# Altium integrated library NSC Transconductance Amplifier.IntLib: 2 symbols
Pins are listed as number, name and electrical type; pins without a type are passive.

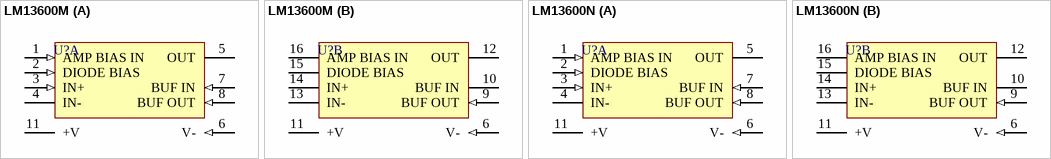
[diagram p0: symbols LM13600M to LM13600N]

## LM13600M
designator U?
Dual Operational Transconductance Amplifier with Linearizing Diodes and Buffers; ComponentAvailability: Obsolete; Published: 15-Apr-2002; LatestRevisionDate: 13-Apr-2006; LatestRevisionNote: IPC-7351 Footprint Added.; DatasheetVersion: May-1998; PackageVersion: 2000; PackageReference: M16A; Publisher: Altium Limited; PackageDescription: 16-Pin Small Outline Integrated Circuit 1.27 mm Pitch; Code_IPC: SOIC127P600-16; ComponentLink1Description: Manufacturer Link; ComponentLink1URL: http://www.national.com/; ComponentLink2Description: Discontinuation Notice; ComponentLink2URL: http://www.national.com/obs/obsolescence.txt
footprint M16A_N (SOIC, 16-Leads, Body 9.9x3.9mm, Pitch 1.27mm, IPC Medium Density)
footprint M16A_L (SOIC, 16-Leads, Body 9.9x3.9mm, Pitch 1.27mm, IPC High Density)
footprint M16A_M (SOIC, 16-Leads, Body 9.9x3.9mm, Pitch 1.27mm, IPC Low Density)
3D model M16A (16-Pin Small Outline Integrated Circuit 1.27 mm Pitch)
pins on every part: 6 V- (in), 11 +V (power)
part A pins: 1 AMP BIAS IN (in), 2 DIODE BIAS (in), 3 IN+ (in), 4 IN- (power), 5 OUT (power), 7 BUF IN (in), 8 BUF OUT (in)
part B pins: 9 BUF OUT (in), 10 BUF IN, 12 OUT (power), 13 IN- (hiz), 14 IN+ (hiz), 15 DIODE BIAS (hiz), 16 AMP BIAS IN (power)

## LM13600N
designator U?
Dual Operational Transconductance Amplifier with Linearizing Diodes and Buffers; ComponentAvailability: Obsolete; Published: 15-Apr-2002; LatestRevisionDate: 06-Jun-2005; LatestRevisionNote: Stylized 3D Model Added.; DatasheetVersion: May-1998; PackageVersion: 2000; PackageReference: N16A; Publisher: Altium Limited; PackageDescription: DIP; 16 Leads; Row Spacing 7.62 mm; Pitch 2.54 mm; ComponentLink1Description: Manufacturer Link; ComponentLink1URL: http://www.national.com/; ComponentLink2Description: Discontinuation Notice; ComponentLink2URL: http://www.national.com/obs/obsolescence.txt
footprint N16A (DIP; 16 Leads; Row Spacing 7.62 mm; Pitch 2.54 mm)
3D model N16A (DIP; 16 Leads; Row Spacing 7.62 mm; Pitch 2.54 mm)
pins on every part: 6 V- (in), 11 +V (power)
part A pins: 1 AMP BIAS IN (in), 2 DIODE BIAS (in), 3 IN+ (in), 4 IN- (power), 5 OUT (power), 7 BUF IN (in), 8 BUF OUT (in)
part B pins: 9 BUF OUT (in), 10 BUF IN, 12 OUT (power), 13 IN- (hiz), 14 IN+ (hiz), 15 DIODE BIAS (hiz), 16 AMP BIAS IN (power)